# Altium schematic symbol library ESP32_SERVO.SCHLIB: 11 symbols
Pins are listed as number, name and electrical type; pins without a type are passive.

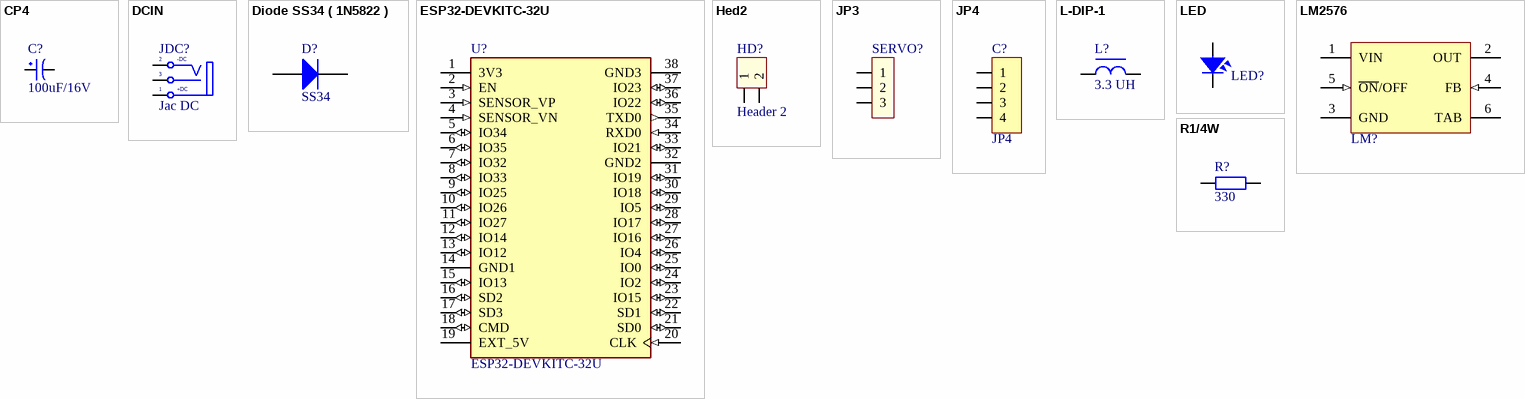
[diagram p0: symbols CP4 to R1/4W]

## CP4
designator C?, comment 100uF/16V
Cap 1000uF/16V - 220uF/50V; Description 5: 4,7uF>10uF/250V_3,3uF>10uF/400V - 2,2uF>4,7uF/450V; Description 1: 2200uF-3300uF/6,3V - 1000uF-2200uF/10V; Description 2: 1000uF/16V - 470uF => 1000uF/25V - 100uF/100V; Description 3: 330uF>470uF/35V_220uF>470uF/50V_10uF>22uF/250V; Description 4: 220uF => 330uF/63V - 10uF =>33uF/160 - 200V; Value: 1000uF/16V
footprint CP1.5/3.4 (Tu hoa 220->470uF,16V, 470uF/16V,25V)
pins: 1, 2

## DCIN
designator JDC?, comment Jac DC
Jac DC input; Value: Jac DC
footprint DC-IN (Jac DC input)
pins: 1 T "Tip", 2 TN "Tip Normal (Break Contact)", 3 S (power) "Sleeve (Ground)"
text: -DC; +DC

## Diode SS34 ( 1N5822 )
designator D?, comment SS34
Dán; Don_Vi: Con; Ma_Hang: MH002104; Ten_Linh_Kien: Diode SS34 3A 40V SMA ( 1N5822 SS34A); Kieu_Chan: *; Chung_Loai: Dán
footprint DIODE SMA (SMA)
pins: 1 A, 2 K

## ESP32-DEVKITC-32U
designator U?
ESP32-DEVKITC; Package: None; Availability: Unavailable; Value: *; MP: ESP32-DEVKITC-32U; Price: None
footprint MODULE_ESP32-DEVKITC-32U
pins: 1 3V3 (power), 2 EN (in), 3 SENSOR_VP (in), 4 SENSOR_VN (in), 5 IO34 (io), 6 IO35 (io), 7 IO32 (io), 8 IO33 (io), 9 IO25 (io), 10 IO26 (io), 11 IO27 (io), 12 IO14 (io), 13 IO12 (io), 14 GND1 (power), 15 IO13 (io), 16 SD2 (io), 17 SD3 (io), 18 CMD (io), 19 EXT_5V (power), 20 CLK (in), 21 SD0 (io), 22 SD1 (io), 23 IO15 (io), 24 IO2 (io), 25 IO0 (io), 26 IO4 (io), 27 IO16 (io), 28 IO17 (io), 29 IO5 (io), 30 IO18 (io), 31 IO19 (io), 32 GND2 (power), 33 IO21 (io), 34 RXD0 (in), 35 TXD0 (out), 36 IO22 (io), 37 IO23 (io), 38 GND3 (power)

## Hed2
designator HD?, comment Header 2
Header 2 (Green); Value: Header 2
footprint HED2 (Header 2, 2 pin, hight 300mil, Pin to Pin 200, Colour Green)
footprint HED2T (Header 2, 2 pin, hight 300mil, Pin to Pin 200, Colour Green)
footprint HED2B (Header 2, 2 pin, hight 300mil, Pin to Pin 150, Colour White)
pins: 1, 2

## JP3
designator SERVO?
Jumper 3; Value: J3
footprint JP3 (Jumper 3)
footprint JP3H
pins: 1, 2, 3

## JP4
designator C?
WR-PHD 2.54 mm Angled Socket Header; Manufacturer: W¨¹rth Elektronik eiSos GmbH; partNo: 613004143121; ComponentLink1 Description: Manufacturer; ComponentLink2 Description: Datasheet; NoPins: 04; Created Date: 29 March 2013; ComponentLink1URL: http://www.we-online.com; ComponentLink2URL: http://katalog.we-online.de/em/datasheet/6130xx143121.pdf; Created by: Karrer Zheng
footprint JP4-C1T (4 row, straight, gold plating)
footprint JP4-D1C (4 pins, 1 row, right angled, gold plating)
footprint JP4-C1C (04p 1 row Right angle)
footprint JP4-D1C (4 pins, 1 row, right angled, gold plating)
pins: 1, 2, 3, 4

## L-DIP-1
designator L?, comment 3.3 UH
Inductor; Value: 150 mH
footprint L-DIP-M-5.3 (THT Inductor, 2-Leads, Body 5.3  mm)
footprint L-DIP-M-6.0 (THT Inductor, 2-Leads, Body 6,0  mm)
footprint L-DIP-M-7.8 (THT Inductor, 2-Leads, Body 7,8  mm)
footprint L-DIP-M-8 (THT Inductor, 2-Leads, Body 8,0  mm)
footprint L-DIP-M-9.5x5.5 (Body 9.5x5.5mm, 2 leads)
footprint L-DIP-M-9.5x6 (Body 9.5x6mm, 2 leads)
footprint L-DIP-M-10 (THT Inductor, 2-Leads, Body 10,0  mm)
footprint L-DIP-M-10x5 (Body 10x5mm, 2 leads)
footprint L-DIP-M-10.5x5.5 (Body 10.5x5.5mm, 2 leads)
footprint L-DIP-M-11.5x5 (Body 11.5x5mm, 2 leads)
footprint L-DIP-M-12x5 (Body 12x5.5mm, 2 leads)
footprint L-DIP-M-12x5.5 (Body 12x5.5mm, 2 leads)
footprint L-DIP-M-12x6 (Body 12x6mm, 2 leads)
footprint L-DIP-M-13.5x6 (Body 13.5x6mm, 2 leads)
footprint L-DIP-M-13.5x6.5 (Body 13.5x6.5mm, 2 leads)
footprint L-DIP-M-13.5x7 (Body 13.5x7mm, 2 leads)
footprint L-DIP-M-14x7 (Body 14x7mm, 2 leads)
footprint L-DIP-M-16x9 (Body 16x9mm, 2 leads)
footprint L-DIP-M-15x7 (Body 15x7mm, 2 leads)
footprint L-DIP-M-15.5x8 (Body 15.5x8mm, 2 leads)
footprint L-DIP-M-16x8.5 (Body 16x8.5mm, 2 leads)
footprint L-DIP-M-16.5x8.5 (Body 16.5x8.5mm, 2 leads)
footprint L-DIP-M-17.5x8.5 (Body 17.5x8.5mm, 2 leads)
footprint L-DIP-M-17.5x9 (Body 17.5x9mm, 2 leads)
footprint L-DIP-M-17.5x13 (Body 17.5x13mm, 2 leads)
footprint L-DIP-M-18x9 (Body 18x9mm, 2 leads)
footprint L-DIP-M-18.5x8 (Body 17.5x8mm, 2 leads)
footprint L-DIP-M-18.5x8.5 (Body 18.5x8.5mm, 2 leads)
footprint L-DIP-M-18.5x9 (Body 18.5x9.5mm, 2 leads)
footprint L-DIP-M-18.5X9.5 (Body 18.5x9.5mm, 2 leads)
footprint L-DIP-M-19x10.5 (Body 19x10.5mm, 2 leads)
footprint L-DIP-M-25x12 (Body 25x12mm, 2 leads)
footprint L-DIP-M-21x11 (Body 21x11mm, 2 leads)
footprint L-DIP-M-25x11 (Body 25x11mm, 2 leads)
footprint L-DIP-M-26x12 (Body 26x12mm, 2 leads)
footprint L-DIP-M-25x13 (Body 25x13mm, 2 leads)
footprint L-DIP-M-27.5x13 (Body 27.5x13mm, 2 leads)
footprint L-DIP-M-28.5x15 (Body 28.5x15mm, 2 leads)
footprint L-DIP-M-31x13
footprint L-DIP-M-38x17 (Body 38x17mm, 2 leads)
footprint RES-1/2W
footprint RES-1/8W-SMALL (R 1/8W, 2 pin, 200mil)
footprint RES-1W
footprint RES-2W (R2W, 2 pin, 700mil)
pins: 1, 2

## LED
designator LED?  (value not drawn)
LED Single colour Green and Red; Value: LED 3 ly Single Colour
footprint LED-5-BLUE (LED 2 PIN, 5 ly , Only colour, pin to pin 110mil)
footprint LED-5-Green (LED 2 PIN, 5 ly , Only colour,pin to pin 100mil)
footprint LED-5-RED (LED 2 PIN, 5 ly , Only colour,pin to pin 100mil)
footprint LED-5-WHITE (LED 2 PIN, 5 ly , Only colour, pin to pin 110mil)
footprint LED-5-Yellow (LED 2 PIN, 5 ly , Only colour,pin to pin 100mil)
footprint LED-3 (LED 2 PIN, 3ly Only colour)
pins: 1, 2

## LM2576
designator LM?  (value not drawn)
footprint TS5B_N
footprint QTO-220-5 (TO, Thru-Hole, Vertical, Heatsink Mounted; 5 In-Line Leads; Pitch 1.70 mm)
footprint QTO-220-5-1 (TO, Thru-Hole, Vertical, Heatsink Mounted; 5 Bent Staggered Leads; Pitch 1.7mm)
footprint QTO-220-5-1N (TO, Thru-Hole, Horizontal, Heatsink Mounted; 5 Bent Staggered Leads; Pitch 1.7 mm)
footprint QTO-220-5-1H1 (TO, Thru-Hole, Vertical, Heatsink Mounted; 5 Bent Staggered Leads; Pitch 1.7mm)
footprint QTO-220-5-1H2 (TO, Thru-Hole, Vertical, Heatsink Mounted; 5 Bent Staggered Leads; Pitch 1.7mm)
footprint TO-263
pins: 1 VIN (power), 2 OUT (power), 3 GND (power), 4 FB (in), 5 ~{ON}/OFF (in), 6 TAB (power)

## R1/4W
designator R?, comment 330
Resistor 1/4W; Value: R1/4W - 1K
footprint R1/4W (R 1/4W, 2 Pin, 350mil)
footprint R1/8W (R 1/8W, 2 pin, 300mil)
footprint R1/2W (R 1/2W, 2 pin, 400mil)
footprint R1/4WD (R 1/4W, 2 Pin, 150mil)
footprint SM-RES-0805
pins: 1, 2